# Altium footprint library CNT_1x12_1.25mm_V_MOLEX_53398-1271.PcbLib: 1 footprints
Each footprint in its own frame and in the unit in brackets; x right, y up, seen from the top. Pads: shape width x height; smd on the part's side, far side on the other; paste and mask are expansions set on the pad; w line width, h text height; cw(c..) or ccw(c..) is an arc to the next point about the centre after c.
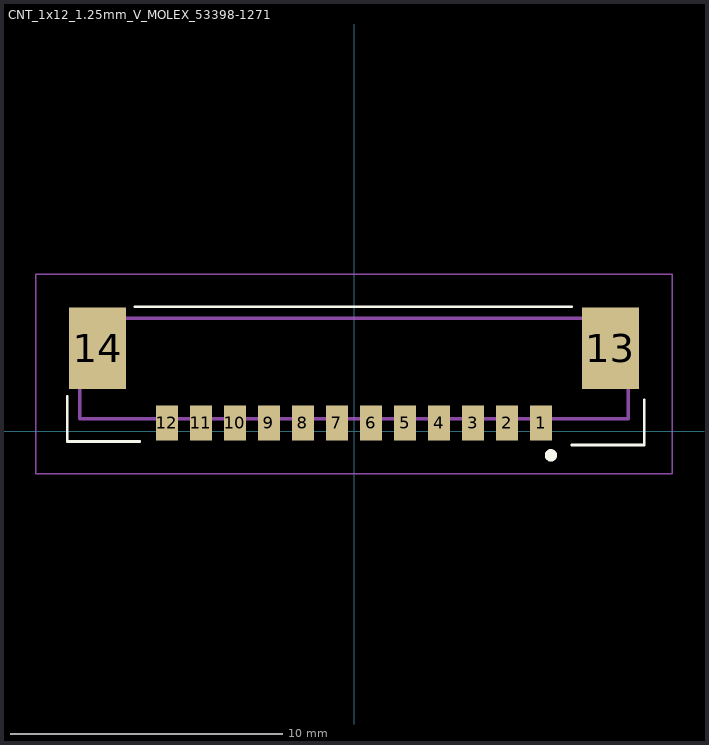
[diagram p0: the footprint, top view; thin cyan lines are the x and y axes]

## CNT_1x12_1.25mm_V_MOLEX_53398-1271 [mm]
pads (14):
  rect 0.8x1.3 smd: 1(6.875,0.3) 2(5.625,0.3) 3(4.375,0.3) 4(3.125,0.3) 5(1.875,0.3) 6(0.625,0.3) 7(-0.625,0.3) 8(-1.875,0.3) 9(-3.125,0.3) 10(-4.375,0.3) 11(-5.625,0.3) 12(-6.875,0.3)
  rect 2.1x3 smd: 13(9.425,3.05) 14(-9.425,3.05)
Top Overlay:
  circle w0.254: c7.239,-0.889 r0.102
  lines w0.1: -10.541,1.27 -10.541,-0.381 -7.874,-0.381 ; -8.049,4.571 8.001,4.572 ; 8.001,-0.508 10.668,-0.508 10.668,1.143
Mechanical 1:
  lines w0.127: -10.075,0.45 -10.075,4.15 10.075,4.15 10.075,0.45 -10.075,0.45
  text ".Designator" at -2.029,2.111 h1.5
Mechanical 15:
  lines w0.05: -11.694,-1.569 -11.694,5.769 11.694,5.769 11.694,-1.569 -11.694,-1.569
3D body "533981271.stp": height 4.7, standoff 0, extent -10.075,0 10.075,4.2